# Altium schematic symbol library CAPP.SCHLIB: 1 symbol
Pins are listed as number, name and electrical type; pins without a type are passive.

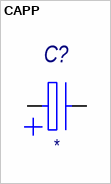
[diagram p0: symbol CAPP]

## CAPP
designator C?
Value: *
pins: 1, 2